# Altium footprint library REUN.468349.001_PSU_Board.PcbLib: 26 footprints (part 1 of 2)
Each footprint in its own frame and in the unit in brackets; x right, y up, seen from the top. Pads: shape width x height; smd on the part's side, far side on the other; paste and mask are expansions set on the pad; w line width, h text height; cw(c..) or ccw(c..) is an arc to the next point about the centre after c.
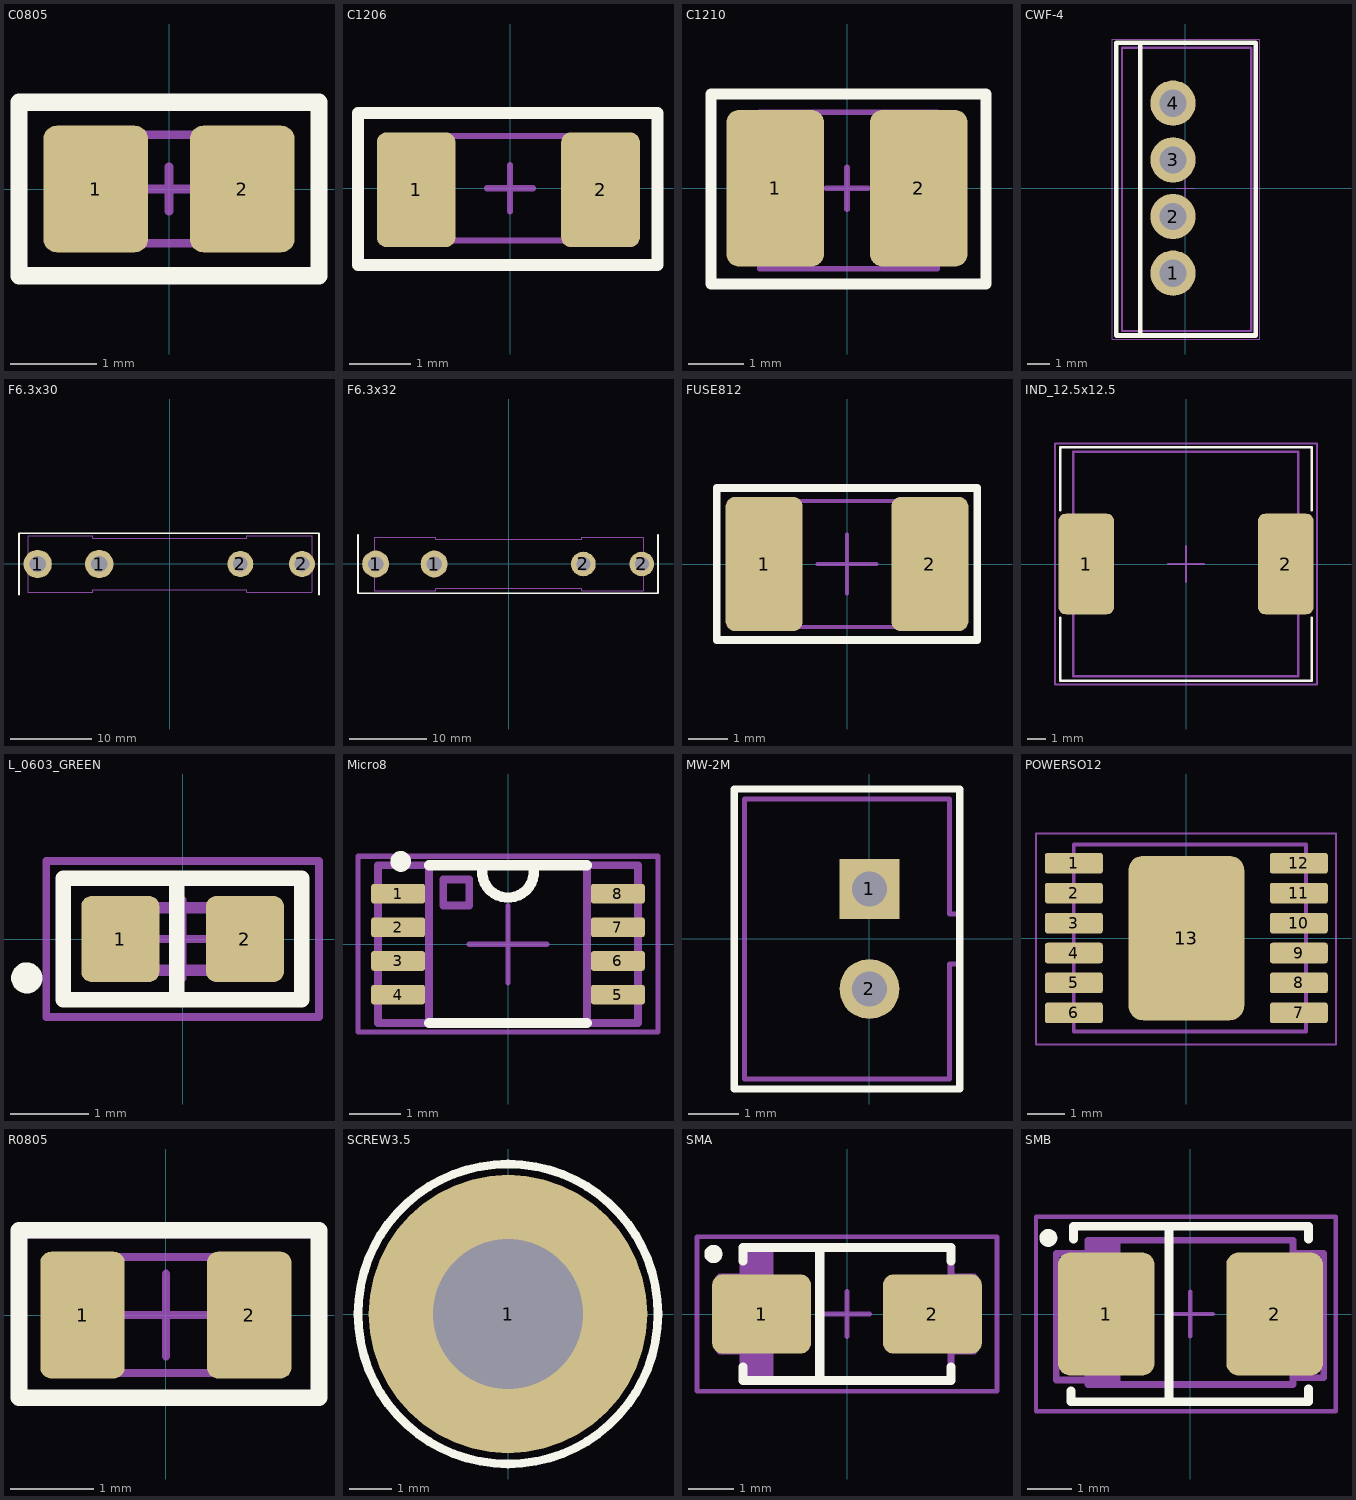
[diagram p0: the footprints below, top view; thin cyan lines are the x and y axes]

## C0805 [mm]
pads (2):
  rrect25% 1.21x1.46 smd paste-5: 1(-0.845,0) 2(0.845,0)
Top Overlay:
  lines w0.2: -1.73,-1 1.73,-1 1.73,1 -1.73,1 -1.73,-1
Top Paste:
  region: -1.3,0.73 -0.39,0.73 -0.36,0.73 -0.305,0.707 -0.263,0.665 -0.24,0.61 -0.24,0.58 -0.48,0 -0.24,-0.58 -0.24,-0.61 -0.263,-0.665 -0.305,-0.707 -0.36,-0.73 -0.39,-0.73 -1.3,-0.73 -1.33,-0.73 -1.385,-0.707 -1.427,-0.665 -1.45,-0.61 -1.45,-0.58 -1.45,0.58 -1.45,0.61 -1.427,0.665 -1.385,0.707 -1.33,0.73
  region: 1.3,0.73 0.39,0.73 0.36,0.73 0.305,0.707 0.263,0.665 0.24,0.61 0.24,0.58 0.48,0 0.24,-0.58 0.24,-0.61 0.263,-0.665 0.305,-0.707 0.36,-0.73 0.39,-0.73 1.3,-0.73 1.33,-0.73 1.385,-0.707 1.427,-0.665 1.45,-0.61 1.45,-0.58 1.45,0.58 1.45,0.61 1.427,0.665 1.385,0.707 1.33,0.73
Mechanical 7:
  lines w0.1: -1,-0.625 -1,0.625 1,0.625 1,-0.625 -1,-0.625
Mechanical 9:
  text ".Designator" at -4.5,1.7 h3
Mechanical 10:
  text ".Comment" at -3.05,-2.6 h2
Mechanical 15:
  lines w0.05: -1.73,-0.93 -1.73,0.93 1.73,0.93 1.73,-0.93 -1.73,-0.93
  lines w0.1: -0.254,0 0.254,0 ; 0,-0.254 0,0.254
3D body "CAP0805.STEP": height 0.78, standoff 0, extent -1,-0.625 1,0.625

## C1206 [mm]
pads (2):
  rrect25% 1.28x1.87 smd: 1(-1.528,-0.024) 2(1.472,-0.024)
Top Overlay:
  lines w0.2: -2.475,-1.25 -2.475,1.225 2.4,1.225 2.4,-1.25 -2.475,-1.25
Mechanical 7:
  lines w0.1: -1.603,-0.849 1.597,-0.849 1.597,0.851 -1.603,0.849 -1.603,-0.849
Mechanical 9:
  text ".Designator" at -4.75,2 h3
Mechanical 10:
  text ".Comment" at -3.128,-2.9 h2
Mechanical 15:
  lines w0.05: -2.475,-1.25 2.4,-1.25 2.4,1.225 -2.475,1.225 -2.475,-1.25
  lines w0.1: -0.375,0 0.375,0 ; 0,-0.375 0,0.375
3D body "SMD_1206.step": height 1.75, standoff 0.25, extent -1.603,-0.849 1.597,0.851

## C1210 [mm]
pads (2):
  rrect25% 1.76x2.82 smd paste-5: 1(-1.295,0) 2(1.295,0)
Top Overlay:
  lines w0.2: -2.455,-1.725 -2.455,1.7 2.505,1.7 2.505,-1.725 -2.455,-1.725
Top Paste:
  region: -1.96,1.41 -0.635,1.41 -0.591,1.41 -0.51,1.376 -0.449,1.315 -0.415,1.234 -0.415,1.19 -0.765,-0.01 -0.415,-1.195 -0.415,-1.238 -0.448,-1.317 -0.508,-1.377 -0.587,-1.41 -0.63,-1.41 -1.955,-1.41 -1.999,-1.41 -2.08,-1.376 -2.141,-1.315 -2.175,-1.234 -2.175,-1.19 -2.175,1.195 -2.175,1.238 -2.142,1.317 -2.082,1.377 -2.003,1.41
  region: 1.96,1.41 0.635,1.41 0.591,1.41 0.51,1.376 0.449,1.315 0.415,1.234 0.415,1.19 0.765,-0.01 0.415,-1.195 0.415,-1.238 0.448,-1.317 0.508,-1.377 0.587,-1.41 0.63,-1.41 1.955,-1.41 1.999,-1.41 2.08,-1.376 2.141,-1.315 2.175,-1.234 2.175,-1.19 2.175,1.195 2.175,1.238 2.142,1.317 2.082,1.377 2.003,1.41
Mechanical 7:
  lines w0.1: -1.575,-1.45 1.625,-1.45 1.625,1.375 -1.575,1.375 -1.575,-1.45
Mechanical 9:
  text ".Designator" at -4.75,2.5 h3
Mechanical 10:
  text ".Comment" at -3.3,-3.5 h2
Mechanical 15:
  lines w0.1: -0.375,0 0.375,0 ; 0,-0.375 0,0.375 ; -2.455,-1.725 2.505,-1.725 2.505,1.7 -2.455,1.7 -2.455,-1.725
3D body "SMD_1210.step": height 1.65, standoff -0.05, extent -1.625,-1.275 1.575,1.225

## CWF-4 [mm]
pads (4):
  round 2 hole 1.2: 1(-0.55,-3.75) 2(-0.55,-1.25) 3(-0.55,1.25) 4(-0.55,3.75)
Top Overlay:
  lines w0.2: -2,-6.5 -2,6.4 ; -3.045,-6.5 3.1,-6.5 3.1,6.415 -3.045,6.415 -3.045,-6.5
Top Designator:
  text ".Designator" at 2.599,0.299 h1.5
Mechanical 9:
  text ".Designator" at -5.3,9.1 h1.5
Mechanical 10:
  text ".Comment" at -3.3,7.1 h2
Mechanical 11:
  lines w0.1: -2.8,-6.3 -2.8,6.2 2.9,6.2 2.9,-6.3 -2.8,-6.3
Mechanical 15:
  lines w0.05: -0.4,0 0.4,0 ; 0,-0.5 0,0.5 ; -3.224,-6.654 3.271,-6.654 3.271,6.583 -3.224,6.583 -3.224,-6.654
3D body "CWF_4_V.STEP": height 7.7, standoff -1, extent -2.8,-6.3 2.9,6.2

## F6.3x30 [mm]
pads (4):
  round 3.5 hole 2: 1(-16.3,0) 1(-8.7,0)
  round 3.2 hole 1.8: 2(8.7,0) 2(16.3,0)
Top Overlay:
  lines w0.2: -18.6,-3.8 -18.6,3.8 18.4,3.8 18.4,-3.8
Mechanical 11:
  lines w0.1: -9.501,-3.5 -9.501,-3.2 ; -9.501,-3.154 9.497,-3.154 ; -9.501,3.5 -9.501,3.2 9.497,3.2 9.497,3.5 ; -9.5,-3.5 -17.5,-3.5 -17.5,3.5 -9.5,3.5 ; 9.495,-3.454 9.495,-3.154 ; 9.5,-3.5 17.5,-3.5 17.5,3.5 9.5,3.5
3D body "User Library-Fuse-2.STEP": height 9.46, standoff 3.11, extent -15.963,-3.151 15.797,3.199
3D body "User Library-FH-103 fuse holder 6_4mm.step": height 10.7, standoff -2.99, extent -16.502,-3.512 -8.5,3.5
3D body "User Library-FH-103 fuse holder 6_4mm.step": height 10.7, standoff -2.99, extent 8.498,-3.512 16.5,3.5

## F6.3x32 [mm]
pads (4):
  round 3.5 hole 2: 1(-17.3,0) 1(-9.7,0)
  round 3.2 hole 1.8: 2(9.7,0) 2(17.3,0)
Top Overlay:
  lines w0.2: -19.6,3.8 -19.6,-3.8 19.4,-3.8 19.4,3.8
Mechanical 11:
  lines w0.1: -9.501,-3.5 -9.501,-3.2 ; -9.501,-3.154 9.497,-3.154 ; -9.501,3.5 -9.501,3.2 9.497,3.2 9.497,3.5 ; -9.5,-3.5 -17.5,-3.5 -17.5,3.5 -9.5,3.5 ; 9.495,-3.454 9.495,-3.154 ; 9.5,-3.5 17.5,-3.5 17.5,3.5 9.5,3.5
3D body "User Library-FH-103 fuse holder 6_4mm.step": height 10.7, standoff -2.99, extent 9.498,-3.512 17.5,3.5
3D body "User Library-FH-103 fuse holder 6_4mm.step": height 10.7, standoff -2.99, extent -17.502,-3.512 -9.5,3.5
3D body "User Library-Fuse-2.STEP": height 9.46, standoff 3.11, extent -15.963,-3.151 15.797,3.199

## FUSE812 [mm]
pads (2):
  rrect25% 1.95x3.4 smd: 1(-2.1,0) 2(2.1,0)
Top Overlay:
  lines w0.2: -3.3,-1.925 3.3,-1.925 3.3,1.925 -3.3,1.925 -3.3,-1.925
Top Designator:
  text ".Designator" at 2.575,0.335 h1.5
Mechanical 9:
  text ".Comment" at -1.25,-0.5 h0.8
  text ".Designator" at -1.25,0.25 h1.5
Mechanical 11:
  lines w0.1: -2.325,-1.6 -2.325,1.6 2.325,1.6 2.325,-1.6 -2.325,-1.6
Mechanical 15:
  lines w0.05: -3.3,-1.925 -3.3,1.925 3.3,1.925 3.3,-1.925 -3.3,-1.925
  lines w0.1: -0.75,0 0.75,0 ; 0,-0.75 0,0.75
3D body "User Library-fuse1812.step": height 1.32, standoff 0, extent -2.41,-1.61 2.41,1.61

## IND_12.5x12.5 [mm]
pads (2):
  rrect25% 3.1x5.6 smd: 1(-5.55,0) 2(5.55,0)
Top Overlay:
  lines w0.15: -7,-3 -7,-6.5 7,-6.5 7,-3 ; -7,3 -7,6.5 7,6.5 7,3
Top Designator:
  text ".Designator" at -2.575,-0.335 h1.5
Mechanical 7:
  lines w0.15: -6.275,-6.25 6.25,-6.25 6.25,6.25 -6.275,6.25 -6.275,-6.25
Mechanical 9:
  text ".Designator" at -5,7.3 h1.5
Mechanical 10:
  text ".Comment" at -3.8,-7.9 h2
Mechanical 15:
  lines w0.1: -1,0 1,0 ; 0,-1 0,1 ; -7.3,-6.7 7.3,-6.7 7.3,6.7 -7.3,6.7 -7.3,-6.7
3D body "User Library-DRQ127_12_5x12_5.step": height 8, standoff 0, extent -6.25,-6.25 6.25,6.25

## L_0603_GREEN [mm]
pads (2):
  rrect25% 1x1.1 smd: 1(-0.8,0) 2(0.8,0)
Top Overlay:
  circle w0.2: c-2,-0.5 r0.1
  lines w0.2: -0.075,-0.78 -0.075,0.78 ; -1.53,-0.78 1.53,-0.78 1.53,0.78 -1.53,0.78 -1.53,-0.78
Top Designator:
  text ".Designator" at -2.775,-0.335 h1.5
Mechanical 9:
  text ".Designator" at -4.75,1.75 h1.5
Mechanical 10:
  text ".Comment" at -3,-2.75 h2
Mechanical 11:
  lines w0.15: -0.7,-0.4 -0.7,0.4 ; -0.6,-0.4 -0.6,0.4 ; -0.5,-0.4 -0.5,0.4 ; -0.8,-0.4 -0.8,0.4 0.8,0.4 0.8,-0.4 -0.8,-0.4
Mechanical 15:
  lines w0.1: -0.5,0 0.5,0 ; 0,-0.5 0,0.5 ; -1.75,-1 -1.75,1 1.75,1 1.75,-1 -1.75,-1
3D body "User Library-LTST-C190GKT.STEP": height 0.9, standoff 0, extent -0.85,-0.45 0.85,0.45

## Micro8 [mm]
pads (8):
  rrect25% 1.04x0.38 smd: 1(-2.125,0.975) 2(-2.125,0.325) 3(-2.125,-0.325) 4(-2.125,-0.975) 5(2.125,-0.975) 6(2.125,-0.325) 7(2.125,0.325) 8(2.125,0.975)
Top Overlay:
  circle w0.2: c-2.075,1.6 r0.1
  lines w0.2: -1.525,-1.525 1.525,-1.525 ; -1.525,1.525 1.525,1.525 ; -0.499,1.425 ccw(c0,1.4) 0.499,1.425
Top Designator:
  text ".Designator" at 2.575,0.36 h1.5
Mechanical 7:
  lines w0.15: -1.525,-1.525 -1.525,1.525 ; 1.525,-1.525 1.525,1.525 ; -2.515,-1.525 -2.515,1.525 2.515,1.525 2.515,-1.525 -2.515,-1.525 ; -1.25,0.75 -1.25,1.25 -0.75,1.25 -0.75,0.75 -1.25,0.75
Mechanical 9:
  text ".Designator" at -4.65,2.725 h1.5
Mechanical 10:
  text ".Comment" at -2.8,-3.2 h2
Mechanical 15:
  lines w0.1: -0.75,0 0.75,0 ; 0,-0.75 0,0.75 ; -2.9,-1.7 2.9,-1.7 2.9,1.7 -2.9,1.7 -2.9,-1.7
3D body "User Library-msop-8.step": height 1.15, standoff 0, extent -2.45,-1.5 2.45,1.5

## MW-2M [mm]
pads (2):
  rect 1.2x1.2 hole 0.7: 1(0,1)
  round 1.2 hole 0.7: 2(0,-1)
Top Overlay:
  lines w0.15: -2.7,-3 1.8,-3 1.8,3 -2.7,3 -2.7,-3
Top Designator:
  text ".Designator" at -3.025,-0.335 h1.5
Mechanical 9:
  text ".Designator" at -6,5.2 h1.5
Mechanical 10:
  text ".Comment" at -1.3,3.4 h2
Mechanical 11:
  lines w0.1: 1.79,0.5 1.6,0.5 1.6,2.8 -2.5,2.8 -2.5,-2.8 1.6,-2.8 1.6,-0.5 1.8,-0.5 ; -2.7,-3 -2.7,3 1.8,3 1.8,-3 -2.7,-3
3D body "B2B-PH-K-S.STEP": height 6, standoff -3.4, extent -2.7,-2.95 1.8,2.95

## POWERSO12 [mm]
pads (13):
  rrect25% 1.55x0.55 smd: 1(-3.007,2) 2(-3.007,1.2) 3(-3.007,0.4) 4(-3.007,-0.4) 5(-3.007,-1.2) 6(-3.007,-2) 7(3.007,-2) 8(3.007,-1.2) 9(3.007,-0.4) 10(3.007,0.4) 11(3.007,1.2) 12(3.007,2)
  rrect25% 3.1x4.4 smd: 13(0,0)
Mechanical 13:
  lines w0.1: -3.007,-2.5 -3.007,2.5 3.2,2.5 3.2,-2.5 -3.007,-2.5
Mechanical 15:
  lines w0.05: -1.25,0 1.25,0 ; 0,-1.25 0,1.25 ; -4.018,-2.845 4.001,-2.845 4.001,2.795 -4.018,2.795 -4.018,-2.845
3D body "User Library-PSSO-12.STEP": height 1.62, standoff -0.01, extent -3.007,-2.5 3.193,2.5

## R0805 [mm]
pads (2):
  rrect25% 1.02x1.53 smd paste-5: 1(-1.008,0) 2(1.008,0)
Top Overlay:
  lines w0.2: -1.775,-1 1.85,-1 1.85,1.025 -1.775,1.025 -1.775,-1
Top Paste:
  region: 0.498,-0.64 0.8,0 0.498,0.64 0.498,0.665 0.517,0.711 0.552,0.746 0.598,0.765 0.622,0.765 1.393,0.765 1.417,0.765 1.463,0.746 1.499,0.711 1.518,0.665 1.518,0.64 1.517,-0.64 1.517,-0.665 1.498,-0.711 1.463,-0.746 1.417,-0.765 1.392,-0.765 0.623,-0.765 0.598,-0.765 0.552,-0.746 0.517,-0.711 0.498,-0.665
  region: -0.498,-0.64 -0.8,0 -0.498,0.64 -0.498,0.665 -0.517,0.711 -0.552,0.746 -0.598,0.765 -0.622,0.765 -1.393,0.765 -1.417,0.765 -1.463,0.746 -1.499,0.711 -1.518,0.665 -1.518,0.64 -1.517,-0.64 -1.517,-0.665 -1.498,-0.711 -1.463,-0.746 -1.417,-0.765 -1.392,-0.765 -0.623,-0.765 -0.598,-0.765 -0.552,-0.746 -0.517,-0.711 -0.498,-0.665
Mechanical 7:
  lines w0.1: -1.1,-0.7 1.1,-0.7 1.1,0.7 -1.1,0.7 -1.1,-0.7
Mechanical 15:
  lines w0.05: -1.775,-0.95 -1.775,0.95 1.85,0.95 1.85,-0.95 -1.775,-0.95
  lines w0.1: -0.5,0 0.5,0 ; 0,-0.5 0,0.5
3D body: height 0.55, standoff 0, extent -0.7,-0.7 0.7,0.7
3D body: height 0.55, standoff 0, extent -1.1,-0.7 -0.7,0.7
3D body: height 0.55, standoff 0, extent 0.7,-0.7 1.1,0.7

## SCREW3.5 [mm]
pads (1):
  round 6.5 hole 3.5: 1(0,0)
Top Overlay:
  circle w0.2: c0,0 r3.5
Bottom Overlay:
  circle w0.2: c0,0 r3.5

## SMA [mm]
pads (2):
  rrect25% 2.17x1.74 smd: 1(-1.88,0) 2(1.88,0)
Top Overlay:
  circle w0.2: c-2.94,1.32 r0.1
  lines w0.2: -2.29,-1.17 -2.29,-1.46 2.29,-1.46 2.29,-1.17 ; -2.29,1.17 -2.29,1.46 2.29,1.46 2.29,1.17 ; -0.6,-1.45 -0.6,1.45
Top Designator:
  text ".Designator" at -2.575,-0.335 h1.5
Mechanical 9:
  text ".Designator" at -4.85,2.85 h1.5
Mechanical 10:
  text ".Comment" at -3,-3.25 h2
Mechanical 11:
  lines w0.15: -2.29,-0.82 -2.8,-0.82 -2.8,0.82 -2.29,0.82 ; -2.19,-1.44 -2.19,1.46 ; -2.09,-1.44 -2.09,1.46 ; -1.99,-1.44 -1.99,1.46 ; -1.89,-1.44 -1.89,1.46 ; -1.79,-1.44 -1.79,1.46 ; -1.69,-1.44 -1.69,1.46 ; 2.29,-0.82 2.8,-0.82 2.8,0.82 2.29,0.82 ; -2.29,-1.46 -2.29,1.46 2.29,1.46 2.29,-1.46 -2.29,-1.46
Mechanical 15:
  lines w0.1: -0.5,0 0.5,0 ; 0,-0.5 0,0.5 ; -3.3,-1.7 3.3,-1.7 3.3,1.7 -3.3,1.7 -3.3,-1.7
3D body "User Library-DO-214AC_SMA.step": height 2.15, standoff -0.05, extent -2.5,-1.35 2.5,1.35

## SMB [mm]
pads (2):
  rrect25% 2.159x2.743 smd: 1(-1.88,0) 2(1.88,0)
Top Overlay:
  circle w0.2: c-3.175,1.7 r0.1
  lines w0.2: -2.665,-1.725 -2.665,-1.96 2.64,-1.96 2.64,-1.67 ; -2.615,1.67 -2.615,1.96 2.64,1.96 2.64,1.67 ; -0.475,-1.925 -0.475,1.95
Top Designator:
  text ".Designator" at 2.475,0.335 h1.5
Mechanical 9:
  text ".Designator" at -5,3 h1.5
Mechanical 10:
  text ".Comment" at -3,-3.5 h2
Mechanical 11:
  lines w0.15: -2.29,-1.475 -3,-1.475 -3,1.35 -2.29,1.35 ; -2.19,-1.575 -2.19,1.65 ; -2.09,-1.575 -2.09,1.65 ; -2.015,-1.575 -2.015,1.65 ; -1.915,-1.575 -1.915,1.65 ; -1.815,-1.575 -1.815,1.65 ; -1.74,-1.575 -1.74,1.65 ; -1.64,-1.575 -1.64,1.65 ; 2.29,-1.425 2.975,-1.425 2.975,1.35 2.29,1.35 ; -2.29,-1.575 -2.29,1.65 2.29,1.65 2.29,-1.575 -2.29,-1.575
Mechanical 15:
  lines w0.1: -0.5,0 0.5,0 ; 0,-0.5 0,0.5 ; -3.45,-2.175 3.25,-2.175 3.25,2.175 -3.45,2.175 -3.45,-2.175
3D body "User Library-DO-214AA_SMB.step": height 2.24, standoff -0.01, extent -2.65,-1.85 2.65,1.85